# Altium footprint library 12-QFN - TI.PcbLib: 1 footprints
Each footprint in its own frame and in the unit in brackets; x right, y up, seen from the top. Pads: shape width x height; smd on the part's side, far side on the other; paste and mask are expansions set on the pad; w line width, h text height; cw(c..) or ccw(c..) is an arc to the next point about the centre after c.
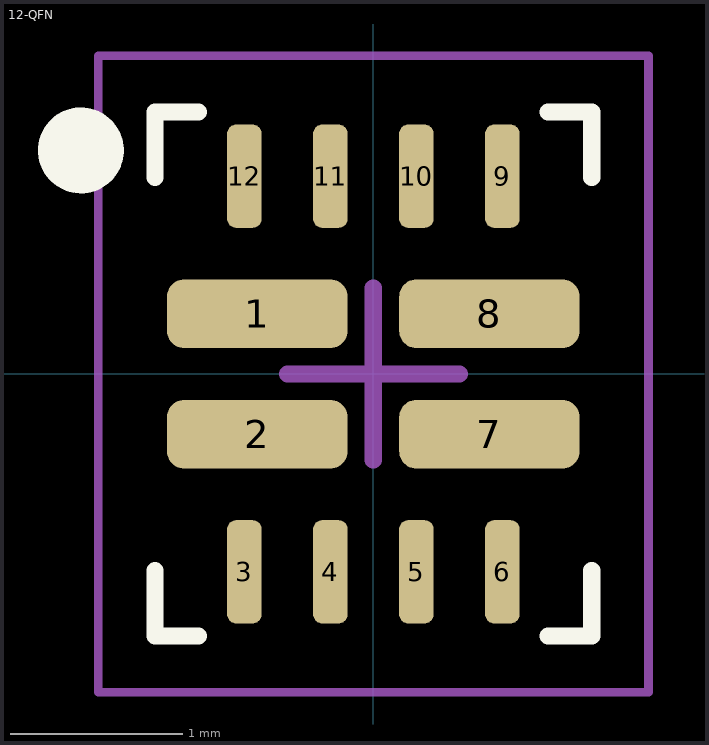
[diagram p0: the footprint, top view; thin cyan lines are the x and y axes]

## 12-QFN [mm] "TPS2121"
height 1
pads (12):
  rrect50% 1.05x0.4 smd: 1(-0.675,0.35) 2(-0.675,-0.35) 7(0.675,-0.35) 8(0.675,0.35)
  rrect50% 0.2x0.6 smd: 3(-0.75,-1.15) 4(-0.25,-1.15) 5(0.25,-1.15) 6(0.75,-1.15) 9(0.75,1.15) 10(0.25,1.15) 11(-0.25,1.15) 12(-0.75,1.15)
Top Overlay:
  circle w0.25: c-1.7,1.3 r0.125
  lines w0.1: -1.27,-1.143 -1.27,-1.524 -1.016,-1.524 ; -1.27,1.143 -1.27,1.524 -1.016,1.524 ; 1.016,-1.524 1.27,-1.524 1.27,-1.143 ; 1.016,1.524 1.27,1.524 1.27,1.143
Top Courtyard:
  lines w0.05: -1.6,-1.85 -1.6,1.85 1.6,1.85 1.6,-1.85 -1.6,-1.85
  lines w0.1: -0.5,0 0.5,0 ; 0,-0.5 0,0.5
Top Designator:
  text ".Designator" at 0.333,-4.998 h1
3D body "TPS2121RUXR.STEP": height 1, standoff 0, extent -1.016,-1.25 0.984,1.25